# Altium footprint library Custom_Footprints.PcbLib: 36 footprints (part 1 of 3)
Each footprint in its own frame and in the unit in brackets; x right, y up, seen from the top. Pads: shape width x height; smd on the part's side, far side on the other; paste and mask are expansions set on the pad; w line width, h text height; cw(c..) or ccw(c..) is an arc to the next point about the centre after c.
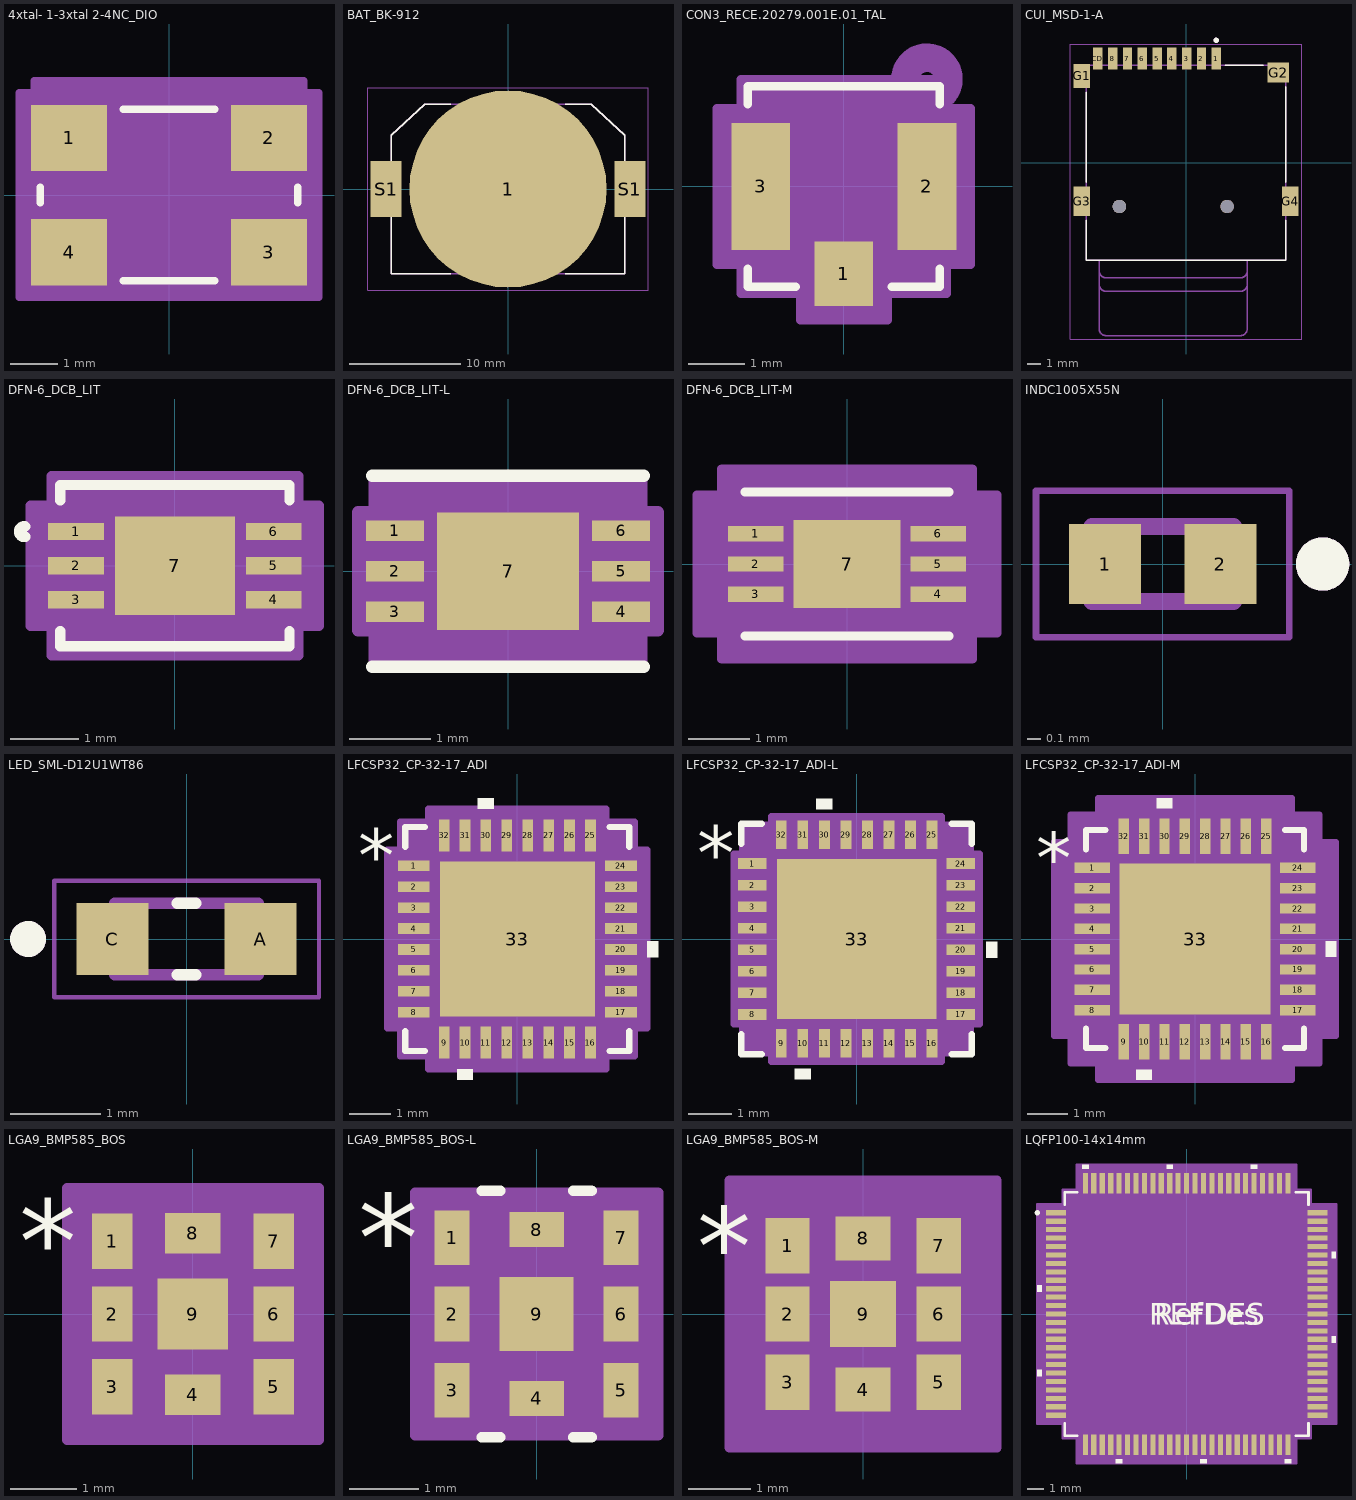
[diagram p0: the footprints below, top view; thin cyan lines are the x and y axes]

## 4xtal- 1-3xtal 2-4NC_DIO [mil]
pads (4):
  rect 63x55 smd paste-27.5 mask+0: 1(-82.68,47.24) 2(82.68,47.24) 3(82.68,-47.24) 4(-82.68,-47.24)
Top Overlay:
  lines w6: -106.5,-6.64 -106.5,6.64 ; -38.08,-71 38.08,-71 ; -38.08,71 38.08,71 ; 106.5,-6.64 106.5,6.64
Mechanical 13:
  circle w1: c-51.18,47.24 r3
  lines w1: -12,66 ccw(c0,66) 12,66 ; -101.5,-66 101.5,-66 101.5,66 -101.5,66 -101.5,-66
Mechanical 15:
  region: -111.5,-84.74 -124.18,-84.74 -124.18,84.74 -111.5,84.74 -111.5,94.74 111.5,94.74 111.5,84.74 124.18,84.74 124.18,-84.74 111.5,-84.74
  lines w6: -124.18,-84.74 -124.18,84.74 -111.5,84.74 -111.5,94.74 111.5,94.74 111.5,84.74 124.18,84.74 124.18,-84.74 111.5,-84.74 -111.5,-84.74 -124.18,-84.74
3D body "4xtal-1-3xtal2-4NC_DIO.step": height 31.1, standoff 0, extent -101.5,-65.98 101.5,65.98

## BAT_BK-912 [mm]
pads (3):
  round 17.78 smd paste-10: 1(0,0)
  rect 2.79x5.08 smd: S1(-10.985,0) S1(10.985,0)
Top Overlay:
  lines w0.127: -5.18,-7.62 -10.54,-7.62 -10.54,4.83 -7.49,7.62 -5.18,7.62 ; 5.18,-7.62 10.54,-7.62 10.54,4.83 7.49,7.62 5.18,7.62
Mechanical 13:
  lines w0.127: -10.54,-7.62 -10.54,4.83 -7.49,7.62 7.49,7.62 10.54,4.83 10.54,-7.62 -10.54,-7.62
Mechanical 15:
  lines w0.05: -12.63,-9.14 -12.63,9.14 12.63,9.14 12.63,-9.14 -12.63,-9.14

## CON3_RECE.20279.001E.01_TAL [mil]
pads (3):
  rect 41x45 smd paste+0 mask+0: 1(0,-61.02)
  rect 41x89 smd paste+0 mask+0: 2(58.07,0) 3(-58.07,0)
Top Overlay:
  lines w6: -67,-57.6 -67,-70 -33.6,-70 ; -67,57.6 -67,70 67,70 67,57.6 ; 33.6,-70 67,-70 67,-57.6
  text ".Designator" at -137.5,-25 h50
Bottom Overlay:
  circle w20: c92,0 r15
Mechanical 13:
  circle w20: c58.07,75 r15
  lines w1: -62,-65 62,-65 62,65 -62,65 -62,-65
  text ".Designator" at -137.5,-25 h50
Mechanical 15:
  region: 88.57,-54.5 88.57,54.5 72,54.5 72,75 -72,75 -72,54.5 -88.57,54.5 -88.57,-54.5 -72,-54.5 -72,-75 -30.5,-75 -30.5,-93.52 30.5,-93.52 30.5,-75 72,-75 72,-54.5
  lines w6: -88.57,-54.5 -88.57,54.5 -72,54.5 -72,75 72,75 72,54.5 88.57,54.5 88.57,-54.5 72,-54.5 72,-75 30.5,-75 30.5,-93.52 -30.5,-93.52 -30.5,-75 -72,-75 -72,-54.5 -88.57,-54.5

## CUI_MSD-1-A [mm]
height 2
pads (15):
  rect 0.7x1.6 smd: 1(2.25,7.75) 2(1.15,7.75) 3(0.05,7.75) 4(-1.05,7.75) 5(-2.15,7.75) 6(-3.25,7.75) 7(-4.35,7.75) 8(-5.45,7.75) CD(-6.55,7.75)
  rect 1.2x1.8 smd: G1(-7.75,6.45)
  rect 1.6x1.5 smd: G2(6.85,6.7)
  rect 1.2x2.2 smd: G3(-7.75,-2.85) G4(7.75,-2.85)
  round 1 hole 1 unplated: ""(-4.95,-3.25) ""(3.05,-3.25)
Top Overlay:
  circle w0.2: c2.25,9.1 r0.1
  lines w0.127: -7.425,-4.27 -7.425,-7.25 7.425,-7.25 7.425,-4.27 ; -7.425,-1.43 -7.425,5.23 ; 2.92,7.25 5.73,7.25 ; 7.425,-1.43 7.425,5.63
Mechanical 13:
  circle w0.2: c2.25,9.1 r0.1
  lines w0.127: -6.45,-9.05 ccw(c-5.95,-9.05) -5.95,-9.55 4.05,-9.55 ccw(c4.05,-9.05) 4.55,-9.05 ; -6.45,-8.05 ccw(c-5.95,-8.05) -5.95,-8.55 4.05,-8.55 ccw(c4.05,-8.05) 4.55,-8.05 ; -6.45,-7.25 -6.45,-12.35 ccw(c-5.95,-12.35) -5.95,-12.85 4.05,-12.85 ccw(c4.05,-12.35) 4.55,-12.35 4.55,-7.25 ; -6.45,-7.25 4.55,-7.25 ; -6.45,-7.25 -7.425,-7.25 -7.425,7.25 7.425,7.25 7.425,-7.25 4.55,-7.25
Mechanical 15:
  lines w0.05: -8.6,-13.1 -8.6,8.8 8.6,8.8 8.6,-13.1 -8.6,-13.1
3D body "step_temp.STEP": height 1.8, standoff -0.6, extent -8.276,-6.255 7.874,8.795

## DFN-6_DCB_LIT [mil]
pads (7):
  rect 32x10 smd paste+0 mask+0: 1(-57,19.68) 2(-57,0) 3(-57,-19.68) 4(57,-19.68) 5(57,0) 6(57,19.68)
  rect 69x57 smd paste+0 mask+0: 7(0,0)
Top Overlay:
  lines w6: -86.1,16.78 cw(c-86.84,19.68) -86.1,22.59 ; -66,-37.78 -66,-46.5 66,-46.5 66,-37.78 ; -66,37.78 -66,46.5 66,46.5 66,37.78
  text ".Designator" at -137.5,-25 h50
Mechanical 13:
  lines w1: -12,41.5 ccw(c0,41.5) 12,41.5 ; -61,-41.5 61,-41.5 61,41.5 -61,41.5 -61,-41.5
  text ".Designator" at -137.5,-25 h50
Mechanical 15:
  region: -71,-34.69 -83,-34.69 -83,34.69 -71,34.69 -71,51.5 71,51.5 71,34.69 83,34.69 83,-34.69 71,-34.69 71,-51.5 -71,-51.5
  lines w6: -83,-34.69 -83,34.69 -71,34.69 -71,51.5 71,51.5 71,34.69 83,34.69 83,-34.69 71,-34.69 71,-51.5 -71,-51.5 -71,-34.69 -83,-34.69
3D body "DFN-6_DCB_LIT.step": height 32.09, standoff 0, extent -60.98,-41.5 60.98,41.5

## DFN-6_DCB_LIT-L [mil]
pads (7):
  rect 28x10 smd paste+0 mask+0: 1(-55,19.68) 2(-55,0) 3(-55,-19.68) 4(55,-19.68) 5(55,0) 6(55,19.68)
  rect 69x57 smd paste+0 mask+0: 7(0,0)
Top Overlay:
  lines w6: -66,-46.5 66,-46.5 ; -66,46.5 66,46.5
  text ".Designator" at -137.5,-25 h50
Mechanical 13:
  lines w1: -12,41.5 ccw(c0,41.5) 12,41.5 ; -61,-41.5 61,-41.5 61,41.5 -61,41.5 -61,-41.5
  text ".Designator" at -137.5,-25 h50
Mechanical 15:
  region: -65,-28.68 -73,-28.68 -73,28.68 -65,28.68 -65,45.5 65,45.5 65,28.68 73,28.68 73,-28.68 65,-28.68 65,-45.5 -65,-45.5
  lines w6: -73,-28.68 -73,28.68 -65,28.68 -65,45.5 65,45.5 65,28.68 73,28.68 73,-28.68 65,-28.68 65,-45.5 -65,-45.5 -65,-28.68 -73,-28.68
3D body "DFN-6_DCB_LIT.step": height 32.09, standoff 0, extent -60.98,-41.5 60.98,41.5

## DFN-6_DCB_LIT-M [mil]
pads (7):
  rect 36x10 smd paste+0 mask+0: 1(-59,19.68) 2(-59,0) 3(-59,-19.68) 4(59,-19.68) 5(59,0) 6(59,19.68)
  rect 69x57 smd paste+0 mask+0: 7(0,0)
Top Overlay:
  lines w6: -66,-46.5 66,-46.5 ; -66,46.5 66,46.5
  text ".Designator" at -137.5,-25 h50
Mechanical 13:
  lines w1: -12,41.5 ccw(c0,41.5) 12,41.5 ; -61,-41.5 61,-41.5 61,41.5 -61,41.5 -61,-41.5
  text ".Designator" at -137.5,-25 h50
Mechanical 15:
  region: -81,-44.69 -97,-44.69 -97,44.69 -81,44.69 -81,61.5 81,61.5 81,44.69 97,44.69 97,-44.69 81,-44.69 81,-61.5 -81,-61.5
  lines w6: -97,-44.69 -97,44.69 -81,44.69 -81,61.5 81,61.5 81,44.69 97,44.69 97,-44.69 81,-44.69 81,-61.5 -81,-61.5 -81,-44.69 -97,-44.69
3D body "DFN-6_DCB_LIT.step": height 32.09, standoff 0, extent -60.98,-41.5 60.98,41.5

## INDC1005X55N [mm]
pads (2):
  rect 0.54x0.6 smd: 1(-0.432,0) 2(0.432,0)
Top Overlay:
  circle w0.2: c1.2,0 r0.1
Mechanical 13:
  circle w0.2: c1.2,0 r0.1
  lines w0.127: -0.53,-0.28 -0.53,0.28 0.53,0.28 0.53,-0.28 -0.53,-0.28
Mechanical 15:
  lines w0.05: -0.95,-0.55 -0.95,0.55 0.95,0.55 0.95,-0.55 -0.95,-0.55

## LED_SML-D12U1WT86 [mm]
height 0.65
pads (2):
  rect 0.8x0.8 smd: A(0.825,0) C(-0.825,0)
Top Overlay:
  circle w0.2: c-1.765,0 r0.1
  lines w0.127: -0.105,-0.4 0.105,-0.4 ; -0.105,0.4 0.105,0.4
Mechanical 13:
  circle w0.2: c-1.765,0 r0.1
  lines w0.127: -0.8,-0.4 0.8,-0.4 0.8,0.4 -0.8,0.4 -0.8,-0.4
Mechanical 15:
  lines w0.05: -1.475,-0.65 1.475,-0.65 1.475,0.65 -1.475,0.65 -1.475,-0.65
3D body "step_temp.STEP": height 0.55, standoff 0, extent -0.8,-0.4 0.8,0.4

## LFCSP32_CP-32-17_ADI [mil]
pads (33):
  rect 30x10 smd paste+0 mask+0: 1(-97.5,68.9) 2(-97.5,49.21) 3(-97.5,29.53) 4(-97.5,9.84) 5(-97.5,-9.84) 6(-97.5,-29.53) 7(-97.5,-49.21) 8(-97.5,-68.9) 17(97.5,-68.9) 18(97.5,-49.21) 19(97.5,-29.53) 20(97.5,-9.84) 21(97.5,9.84) 22(97.5,29.53) 23(97.5,49.21) 24(97.5,68.9)
  rect 10x30 smd paste+0 mask+0: 9(-68.9,-97.5) 10(-49.21,-97.5) 11(-29.53,-97.5) 12(-9.84,-97.5) 13(9.84,-97.5) 14(29.53,-97.5) 15(49.21,-97.5) 16(68.9,-97.5) 25(68.9,97.5) 26(49.21,97.5) 27(29.53,97.5) 28(9.84,97.5) 29(-9.84,97.5) 30(-29.53,97.5) 31(-49.21,97.5) 32(-68.9,97.5)
  rect 146x146 smd paste-73 mask+0: 33(0,0)
Top Overlay:
  region: -22.03,122.5 -37.03,122.5 -37.03,132.5 -22.03,132.5
  region: 122.5,-2.34 132.5,-2.34 132.5,-17.34 122.5,-17.34
  region: -41.71,-122.5 -56.71,-122.5 -56.71,-132.5 -41.71,-132.5
  lines w6: -105.5,-87 -105.5,-105.5 -87,-105.5 ; -105.5,87 -105.5,105.5 -87,105.5 ; 87,-105.5 105.5,-105.5 105.5,-87 ; 87,105.5 105.5,105.5 105.5,87
  text ".Designator" at -137.5,-25 h50
  text "*" at -150,53.74 h50
Top Paste:
  region: 69.06,-3.94 3.94,-3.94 3.94,-69.06 69.06,-69.06
  region: 69.06,69.06 3.94,69.06 3.94,3.94 69.06,3.94
  region: -3.94,-3.94 -69.06,-3.94 -69.06,-69.06 -3.94,-69.06
  region: -3.94,69.06 -69.06,69.06 -69.06,3.94 -3.94,3.94
Mechanical 13:
  lines w1: -100.5,50.5 -50.5,100.5 ; -100.5,-100.5 -100.5,100.5 100.5,100.5 100.5,-100.5 -100.5,-100.5 ; -100.5,-74.9 -100.5,-62.9 -100.5,-74.9 ; -100.5,-55.21 -100.5,-43.21 -100.5,-55.21 ; -100.5,-35.53 -100.5,-23.53 -100.5,-35.53 ; -100.5,-15.84 -100.5,-3.84 -100.5,-15.84 ; -100.5,3.84 -100.5,15.84 -100.5,3.84 ; -100.5,23.53 -100.5,35.53 -100.5,23.53 ; -100.5,43.21 -100.5,55.21 -100.5,43.21 ; -100.5,62.9 -100.5,74.9 -100.5,62.9 ; -74.9,-100.5 -62.9,-100.5 -74.9,-100.5 ; -74.9,100.5 -62.9,100.5 -74.9,100.5 ; -55.21,-100.5 -43.21,-100.5 -55.21,-100.5 ; -55.21,100.5 -43.21,100.5 -55.21,100.5 ; -35.53,-100.5 -23.53,-100.5 -35.53,-100.5 ; -35.53,100.5 -23.53,100.5 -35.53,100.5 ; -15.84,-100.5 -3.84,-100.5 -15.84,-100.5 ; -15.84,100.5 -3.84,100.5 -15.84,100.5 ; 3.84,-100.5 15.84,-100.5 3.84,-100.5 ; 3.84,100.5 15.84,100.5 3.84,100.5 ; 23.53,-100.5 35.53,-100.5 23.53,-100.5 ; 23.53,100.5 35.53,100.5 23.53,100.5 ; 43.21,-100.5 55.21,-100.5 43.21,-100.5 ; 43.21,100.5 55.21,100.5 43.21,100.5 ; 62.9,-100.5 74.9,-100.5 62.9,-100.5 ; 62.9,100.5 74.9,100.5 62.9,100.5 ; 100.5,-74.9 100.5,-62.9 100.5,-74.9 ; 100.5,-55.21 100.5,-43.21 100.5,-55.21 ; 100.5,-35.53 100.5,-23.53 100.5,-35.53 ; 100.5,-15.84 100.5,-3.84 100.5,-15.84 ; 100.5,3.84 100.5,15.84 100.5,3.84 ; 100.5,23.53 100.5,35.53 100.5,23.53 ; 100.5,43.21 100.5,55.21 100.5,43.21 ; 100.5,62.9 100.5,74.9 100.5,62.9
  text "*" at -95,53.74 h50
  text ".Designator" at -137.5,-25 h50
Mechanical 15:
  region: -83.9,-110.5 -110.5,-110.5 -110.5,-83.9 -122.5,-83.9 -122.5,83.9 -110.5,83.9 -110.5,110.5 -83.9,110.5 -83.9,122.5 83.9,122.5 83.9,110.5 110.5,110.5 110.5,83.9 122.5,83.9 122.5,-83.9 110.5,-83.9 110.5,-110.5 83.9,-110.5 83.9,-122.5 -83.9,-122.5
  lines w6: -122.5,-83.9 -122.5,83.9 -110.5,83.9 -110.5,110.5 -83.9,110.5 -83.9,122.5 83.9,122.5 83.9,110.5 110.5,110.5 110.5,83.9 122.5,83.9 122.5,-83.9 110.5,-83.9 110.5,-110.5 83.9,-110.5 83.9,-122.5 -83.9,-122.5 -83.9,-110.5 -110.5,-110.5 -110.5,-83.9 -122.5,-83.9
3D body "LFCSP32_CP-32-17_ADI.step": height 61.1, standoff 0, extent -100.51,-100.51 100.51,100.51

## LFCSP32_CP-32-17_ADI-L [mil]
pads (33):
  rect 26x10 smd paste+0 mask+0: 1(-95.5,68.9) 2(-95.5,49.21) 3(-95.5,29.53) 4(-95.5,9.84) 5(-95.5,-9.84) 6(-95.5,-29.53) 7(-95.5,-49.21) 8(-95.5,-68.9) 17(95.5,-68.9) 18(95.5,-49.21) 19(95.5,-29.53) 20(95.5,-9.84) 21(95.5,9.84) 22(95.5,29.53) 23(95.5,49.21) 24(95.5,68.9)
  rect 10x26 smd paste+0 mask+0: 9(-68.9,-95.5) 10(-49.21,-95.5) 11(-29.53,-95.5) 12(-9.84,-95.5) 13(9.84,-95.5) 14(29.53,-95.5) 15(49.21,-95.5) 16(68.9,-95.5) 25(68.9,95.5) 26(49.21,95.5) 27(29.53,95.5) 28(9.84,95.5) 29(-9.84,95.5) 30(-29.53,95.5) 31(-49.21,95.5) 32(-68.9,95.5)
  rect 146x146 smd paste-73 mask+0: 33(0,0)
Top Overlay:
  region: -22.03,118.5 -37.03,118.5 -37.03,128.5 -22.03,128.5
  region: 118.5,-2.34 128.5,-2.34 128.5,-17.34 118.5,-17.34
  region: -41.71,-118.5 -56.71,-118.5 -56.71,-128.5 -41.71,-128.5
  lines w6: -105.5,-87 -105.5,-105.5 -87,-105.5 ; -105.5,87 -105.5,105.5 -87,105.5 ; 87,-105.5 105.5,-105.5 105.5,-87 ; 87,105.5 105.5,105.5 105.5,87
  text ".Designator" at -137.5,-25 h50
  text "*" at -146,53.74 h50
Top Paste:
  region: 69.06,-3.94 3.94,-3.94 3.94,-69.06 69.06,-69.06
  region: 69.06,69.06 3.94,69.06 3.94,3.94 69.06,3.94
  region: -3.94,-3.94 -69.06,-3.94 -69.06,-69.06 -3.94,-69.06
  region: -3.94,69.06 -69.06,69.06 -69.06,3.94 -3.94,3.94
Mechanical 13:
  lines w1: -100.5,50.5 -50.5,100.5 ; -100.5,-100.5 -100.5,100.5 100.5,100.5 100.5,-100.5 -100.5,-100.5 ; -100.5,-74.9 -100.5,-62.9 -100.5,-74.9 ; -100.5,-55.21 -100.5,-43.21 -100.5,-55.21 ; -100.5,-35.53 -100.5,-23.53 -100.5,-35.53 ; -100.5,-15.84 -100.5,-3.84 -100.5,-15.84 ; -100.5,3.84 -100.5,15.84 -100.5,3.84 ; -100.5,23.53 -100.5,35.53 -100.5,23.53 ; -100.5,43.21 -100.5,55.21 -100.5,43.21 ; -100.5,62.9 -100.5,74.9 -100.5,62.9 ; -74.9,-100.5 -62.9,-100.5 -74.9,-100.5 ; -74.9,100.5 -62.9,100.5 -74.9,100.5 ; -55.21,-100.5 -43.21,-100.5 -55.21,-100.5 ; -55.21,100.5 -43.21,100.5 -55.21,100.5 ; -35.53,-100.5 -23.53,-100.5 -35.53,-100.5 ; -35.53,100.5 -23.53,100.5 -35.53,100.5 ; -15.84,-100.5 -3.84,-100.5 -15.84,-100.5 ; -15.84,100.5 -3.84,100.5 -15.84,100.5 ; 3.84,-100.5 15.84,-100.5 3.84,-100.5 ; 3.84,100.5 15.84,100.5 3.84,100.5 ; 23.53,-100.5 35.53,-100.5 23.53,-100.5 ; 23.53,100.5 35.53,100.5 23.53,100.5 ; 43.21,-100.5 55.21,-100.5 43.21,-100.5 ; 43.21,100.5 55.21,100.5 43.21,100.5 ; 62.9,-100.5 74.9,-100.5 62.9,-100.5 ; 62.9,100.5 74.9,100.5 62.9,100.5 ; 100.5,-74.9 100.5,-62.9 100.5,-74.9 ; 100.5,-55.21 100.5,-43.21 100.5,-55.21 ; 100.5,-35.53 100.5,-23.53 100.5,-35.53 ; 100.5,-15.84 100.5,-3.84 100.5,-15.84 ; 100.5,3.84 100.5,15.84 100.5,3.84 ; 100.5,23.53 100.5,35.53 100.5,23.53 ; 100.5,43.21 100.5,55.21 100.5,43.21 ; 100.5,62.9 100.5,74.9 100.5,62.9
  text "*" at -95,53.74 h50
  text ".Designator" at -137.5,-25 h50
Mechanical 15:
  region: -77.9,-104.5 -104.5,-104.5 -104.5,-77.9 -112.5,-77.9 -112.5,77.9 -104.5,77.9 -104.5,104.5 -77.9,104.5 -77.9,112.5 77.9,112.5 77.9,104.5 104.5,104.5 104.5,77.9 112.5,77.9 112.5,-77.9 104.5,-77.9 104.5,-104.5 77.9,-104.5 77.9,-112.5 -77.9,-112.5
  lines w6: -112.5,-77.9 -112.5,77.9 -104.5,77.9 -104.5,104.5 -77.9,104.5 -77.9,112.5 77.9,112.5 77.9,104.5 104.5,104.5 104.5,77.9 112.5,77.9 112.5,-77.9 104.5,-77.9 104.5,-104.5 77.9,-104.5 77.9,-112.5 -77.9,-112.5 -77.9,-104.5 -104.5,-104.5 -104.5,-77.9 -112.5,-77.9
3D body "LFCSP32_CP-32-17_ADI.step": height 61.1, standoff 0, extent -100.51,-100.51 100.51,100.51

## LFCSP32_CP-32-17_ADI-M [mil]
pads (33):
  rect 34x10 smd paste+0 mask+0: 1(-99.5,68.9) 2(-99.5,49.21) 3(-99.5,29.53) 4(-99.5,9.84) 5(-99.5,-9.84) 6(-99.5,-29.53) 7(-99.5,-49.21) 8(-99.5,-68.9) 17(99.5,-68.9) 18(99.5,-49.21) 19(99.5,-29.53) 20(99.5,-9.84) 21(99.5,9.84) 22(99.5,29.53) 23(99.5,49.21) 24(99.5,68.9)
  rect 10x34 smd paste+0 mask+0: 9(-68.9,-99.5) 10(-49.21,-99.5) 11(-29.53,-99.5) 12(-9.84,-99.5) 13(9.84,-99.5) 14(29.53,-99.5) 15(49.21,-99.5) 16(68.9,-99.5) 25(68.9,99.5) 26(49.21,99.5) 27(29.53,99.5) 28(9.84,99.5) 29(-9.84,99.5) 30(-29.53,99.5) 31(-49.21,99.5) 32(-68.9,99.5)
  rect 146x146 smd paste-73 mask+0: 33(0,0)
Top Overlay:
  region: -41.71,-126.5 -56.71,-126.5 -56.71,-136.5 -41.71,-136.5
  region: 126.5,-2.34 136.5,-2.34 136.5,-17.34 126.5,-17.34
  region: -22.03,126.5 -37.03,126.5 -37.03,136.5 -22.03,136.5
  lines w6: -105.5,-87 -105.5,-105.5 -87,-105.5 ; -105.5,87 -105.5,105.5 -87,105.5 ; 87,-105.5 105.5,-105.5 105.5,-87 ; 87,105.5 105.5,105.5 105.5,87
  text "*" at -154,53.74 h50
  text ".Designator" at -137.5,-25 h50
Top Paste:
  region: -3.94,69.06 -69.06,69.06 -69.06,3.94 -3.94,3.94
  region: -3.94,-3.94 -69.06,-3.94 -69.06,-69.06 -3.94,-69.06
  region: 69.06,69.06 3.94,69.06 3.94,3.94 69.06,3.94
  region: 69.06,-3.94 3.94,-3.94 3.94,-69.06 69.06,-69.06
Mechanical 13:
  lines w1: -100.5,50.5 -50.5,100.5 ; -100.5,-100.5 100.5,-100.5 100.5,100.5 -100.5,100.5 -100.5,-100.5 ; -100.5,-74.9 -100.5,-62.9 -100.5,-74.9 ; -100.5,-55.21 -100.5,-43.21 -100.5,-55.21 ; -100.5,-35.53 -100.5,-23.53 -100.5,-35.53 ; -100.5,-15.84 -100.5,-3.84 -100.5,-15.84 ; -100.5,3.84 -100.5,15.84 -100.5,3.84 ; -100.5,23.53 -100.5,35.53 -100.5,23.53 ; -100.5,43.21 -100.5,55.21 -100.5,43.21 ; -100.5,62.9 -100.5,74.9 -100.5,62.9 ; -74.9,-100.5 -62.9,-100.5 -74.9,-100.5 ; -74.9,100.5 -62.9,100.5 -74.9,100.5 ; -55.21,-100.5 -43.21,-100.5 -55.21,-100.5 ; -55.21,100.5 -43.21,100.5 -55.21,100.5 ; -35.53,-100.5 -23.53,-100.5 -35.53,-100.5 ; -35.53,100.5 -23.53,100.5 -35.53,100.5 ; -15.84,-100.5 -3.84,-100.5 -15.84,-100.5 ; -15.84,100.5 -3.84,100.5 -15.84,100.5 ; 3.84,-100.5 15.84,-100.5 3.84,-100.5 ; 3.84,100.5 15.84,100.5 3.84,100.5 ; 23.53,-100.5 35.53,-100.5 23.53,-100.5 ; 23.53,100.5 35.53,100.5 23.53,100.5 ; 43.21,-100.5 55.21,-100.5 43.21,-100.5 ; 43.21,100.5 55.21,100.5 43.21,100.5 ; 62.9,-100.5 74.9,-100.5 62.9,-100.5 ; 62.9,100.5 74.9,100.5 62.9,100.5 ; 100.5,-74.9 100.5,-62.9 100.5,-74.9 ; 100.5,-55.21 100.5,-43.21 100.5,-55.21 ; 100.5,-35.53 100.5,-23.53 100.5,-35.53 ; 100.5,-15.84 100.5,-3.84 100.5,-15.84 ; 100.5,3.84 100.5,15.84 100.5,3.84 ; 100.5,23.53 100.5,35.53 100.5,23.53 ; 100.5,43.21 100.5,55.21 100.5,43.21 ; 100.5,62.9 100.5,74.9 100.5,62.9
  text ".Designator" at -137.5,-25 h50
  text "*" at -95,53.74 h50
Mechanical 15:
  region: -93.9,-120.5 -120.5,-120.5 -120.5,-93.9 -136.5,-93.9 -136.5,93.9 -120.5,93.9 -120.5,120.5 -93.9,120.5 -93.9,136.5 93.9,136.5 93.9,120.5 120.5,120.5 120.5,93.9 136.5,93.9 136.5,-93.9 120.5,-93.9 120.5,-120.5 93.9,-120.5 93.9,-136.5 -93.9,-136.5
  lines w6: -136.5,-93.9 -120.5,-93.9 -120.5,-120.5 -93.9,-120.5 -93.9,-136.5 93.9,-136.5 93.9,-120.5 120.5,-120.5 120.5,-93.9 136.5,-93.9 136.5,93.9 120.5,93.9 120.5,120.5 93.9,120.5 93.9,136.5 -93.9,136.5 -93.9,120.5 -120.5,120.5 -120.5,93.9 -136.5,93.9 -136.5,-93.9
3D body "LFCSP32_CP-32-17_ADI.step": height 61.1, standoff 0, extent -100.51,-100.51 100.51,100.51

## LGA9_BMP585_BOS [mil]
pads (9):
  rect 24x33 smd paste+0 mask+0: 1(-48,43.31) 2(-48,0) 3(-48,-43.31) 5(48,-43.31) 6(48,0) 7(48,43.31)
  rect 33x24 smd paste+0 mask+0: 4(0,-48) 8(0,48)
  rect 42x42 smd paste+0 mask+0: 9(0,0)
Top Overlay:
  text "*" at -103.5,18.31 h50
  text ".Designator" at -137.5,-25 h50
Mechanical 13:
  lines w1: -65,15 -15,65 ; -65,-65 65,-65 65,65 -65,65 -65,-65 ; -65,-59.81 -65,-26.81 -60,-26.81 -60,-59.81 -65,-59.81 ; -65,-16.5 -65,16.5 -60,16.5 -60,-16.5 -65,-16.5 ; -65,26.81 -65,59.81 -60,59.81 -60,26.81 -65,26.81 ; -16.5,-65 16.5,-65 16.5,-60 -16.5,-60 -16.5,-65 ; -16.5,60 16.5,60 16.5,65 -16.5,65 -16.5,60 ; 60,-59.81 65,-59.81 65,-26.81 60,-26.81 60,-59.81 ; 60,-16.5 65,-16.5 65,16.5 60,16.5 60,-16.5 ; 60,26.81 65,26.81 65,59.81 60,59.81 60,26.81
  text ".Designator" at -137.5,-25 h50
  text "*" at -17.5,18.31 h50
Mechanical 15:
  region: -26.5,-75 -75,-75 -75,-69.81 -75,69.81 -75,75 -26.5,75 26.5,75 75,75 75,69.81 75,-69.81 75,-75 26.5,-75
  lines w6: -75,-75 -75,-69.81 -75,69.81 -75,75 -26.5,75 26.5,75 75,75 75,69.81 75,-69.81 75,-75 26.5,-75 -26.5,-75 -75,-75
3D body "LGA9_BMP585_BOS.step": height 77.09, standoff 0, extent -65,-65 65,65

## LGA9_BMP585_BOS-L [mil]
pads (9):
  rect 20x31 smd paste+0 mask+0: 1(-48,43.31) 2(-48,0) 3(-48,-43.31) 5(48,-43.31) 6(48,0) 7(48,43.31)
  rect 31x20 smd paste+0 mask+0: 4(0,-48) 8(0,48)
  rect 42x42 smd paste+0 mask+0: 9(0,0)
Top Overlay:
  lines w6: -31.19,-70 -20.75,-70 ; -31.19,70 -20.75,70 ; 20.75,-70 31.19,-70 ; 20.75,70 31.19,70
  text "*" at -101.5,18.31 h50
  text ".Designator" at -137.5,-25 h50
Mechanical 13:
  lines w1: -65,15 -15,65 ; -65,-65 65,-65 65,65 -65,65 -65,-65 ; -65,-59.81 -65,-26.81 -60,-26.81 -60,-59.81 -65,-59.81 ; -65,-16.5 -65,16.5 -60,16.5 -60,-16.5 -65,-16.5 ; -65,26.81 -65,59.81 -60,59.81 -60,26.81 -65,26.81 ; -16.5,-65 16.5,-65 16.5,-60 -16.5,-60 -16.5,-65 ; -16.5,60 16.5,60 16.5,65 -16.5,65 -16.5,60 ; 60,-59.81 65,-59.81 65,-26.81 60,-26.81 60,-59.81 ; 60,-16.5 65,-16.5 65,16.5 60,16.5 60,-16.5 ; 60,26.81 65,26.81 65,59.81 60,59.81 60,26.81
  text ".Designator" at -137.5,-25 h50
  text "*" at -19.5,18.31 h50
Mechanical 15:
  region: -19.5,-69 -69,-69 -69,-62.81 -69,62.81 -69,69 -19.5,69 19.5,69 69,69 69,62.81 69,-62.81 69,-69 19.5,-69
  lines w6: -69,-69 -69,-62.81 -69,62.81 -69,69 -19.5,69 19.5,69 69,69 69,62.81 69,-62.81 69,-69 19.5,-69 -19.5,-69 -69,-69
3D body "LGA9_BMP585_BOS.step": height 77.09, standoff 0, extent -65,-65 65,65

## LGA9_BMP585_BOS-M [mil]
pads (9):
  rect 28x35 smd paste+0 mask+0: 1(-48,43.31) 2(-48,0) 3(-48,-43.31) 5(48,-43.31) 6(48,0) 7(48,43.31)
  rect 35x28 smd paste+0 mask+0: 4(0,-48) 8(0,48)
  rect 42x42 smd paste+0 mask+0: 9(0,0)
Top Overlay:
  text "*" at -105.5,18.31 h50
  text ".Designator" at -137.5,-25 h50
Mechanical 13:
  lines w1: -65,15 -15,65 ; -65,-65 65,-65 65,65 -65,65 -65,-65 ; -65,-59.81 -65,-26.81 -60,-26.81 -60,-59.81 -65,-59.81 ; -65,-16.5 -65,16.5 -60,16.5 -60,-16.5 -65,-16.5 ; -65,26.81 -65,59.81 -60,59.81 -60,26.81 -65,26.81 ; -16.5,-65 16.5,-65 16.5,-60 -16.5,-60 -16.5,-65 ; -16.5,60 16.5,60 16.5,65 -16.5,65 -16.5,60 ; 60,-59.81 65,-59.81 65,-26.81 60,-26.81 60,-59.81 ; 60,-16.5 65,-16.5 65,16.5 60,16.5 60,-16.5 ; 60,26.81 65,26.81 65,59.81 60,59.81 60,26.81
  text ".Designator" at -137.5,-25 h50
  text "*" at -15.5,18.31 h50
Mechanical 15:
  region: -37.5,-85 -85,-85 -85,-80.81 -85,80.81 -85,85 -37.5,85 37.5,85 85,85 85,80.81 85,-80.81 85,-85 37.5,-85
  lines w6: -85,-85 -85,-80.81 -85,80.81 -85,85 -37.5,85 37.5,85 85,85 85,80.81 85,-80.81 85,-85 37.5,-85 -37.5,-85 -85,-85
3D body "LGA9_BMP585_BOS.step": height 77.09, standoff 0, extent -65,-65 65,65

## LQFP100-14x14mm [mil]
pads (100):
  rect 47x12 smd paste+0 mask+0: 1(-305.12,236.22) 2(-305.12,216.54) 3(-305.12,196.85) 4(-305.12,177.17) 5(-305.12,157.48) 6(-305.12,137.8) 7(-305.12,118.11) 8(-305.12,98.43) 9(-305.12,78.74) 10(-305.12,59.06) 11(-305.12,39.37) 12(-305.12,19.69) 13(-305.12,0) 14(-305.12,-19.68) 15(-305.12,-39.37) 16(-305.12,-59.06) 17(-305.12,-78.74) 18(-305.12,-98.43) 19(-305.12,-118.11) 20(-305.12,-137.8) 21(-305.12,-157.48) 22(-305.12,-177.17) 23(-305.12,-196.85) 24(-305.12,-216.54) 25(-305.12,-236.22) 51(305.12,-236.22) 52(305.12,-216.54) 53(305.12,-196.85) 54(305.12,-177.17) 55(305.12,-157.48) 56(305.12,-137.8) 57(305.12,-118.11) 58(305.12,-98.43) 59(305.12,-78.74) 60(305.12,-59.06) 61(305.12,-39.37) 62(305.12,-19.68) 63(305.12,0) 64(305.12,19.68) 65(305.12,39.37) 66(305.12,59.06) 67(305.12,78.74) 68(305.12,98.43) 69(305.12,118.11) 70(305.12,137.8) 71(305.12,157.48) 72(305.12,177.17) 73(305.12,196.85) 74(305.12,216.54) 75(305.12,236.22)
  rect 12x47 smd paste+0 mask+0: 26(-236.22,-305.12) 27(-216.54,-305.12) 28(-196.85,-305.12) 29(-177.17,-305.12) 30(-157.48,-305.12) 31(-137.8,-305.12) 32(-118.11,-305.12) 33(-98.43,-305.12) 34(-78.74,-305.12) 35(-59.06,-305.12) 36(-39.37,-305.12) 37(-19.68,-305.12) 38(0,-305.12) 39(19.68,-305.12) 40(39.37,-305.12) 41(59.06,-305.12) 42(78.74,-305.12) 43(98.43,-305.12) 44(118.11,-305.12) 45(137.8,-305.12) 46(157.48,-305.12) 47(177.17,-305.12) 48(196.85,-305.12) 49(216.54,-305.12) 50(236.22,-305.12) 76(236.22,305.12) 77(216.54,305.12) 78(196.85,305.12) 79(177.17,305.12) 80(157.48,305.12) 81(137.8,305.12) 82(118.11,305.12) 83(98.43,305.12) 84(78.74,305.12) 85(59.06,305.12) 86(39.37,305.12) 87(19.68,305.12) 88(0,305.12) 89(-19.68,305.12) 90(-39.37,305.12) 91(-59.06,305.12) 92(-78.74,305.12) 93(-98.43,305.12) 94(-118.11,305.12) 95(-137.8,305.12) 96(-157.48,305.12) 97(-177.17,305.12) 98(-196.85,305.12) 99(-216.54,305.12) 100(-236.22,305.12)
Top Overlay:
  circle w6: c-348.46,236.22 r3
  region: -228.72,338.62 -243.72,338.62 -243.72,348.62 -228.72,348.62
  region: -31.87,338.62 -46.87,338.62 -46.87,348.62 -31.87,348.62
  region: 164.98,338.62 149.98,338.62 149.98,348.62 164.98,348.62
  region: 338.62,145.3 348.62,145.3 348.62,130.3 338.62,130.3
  region: 338.62,-51.56 348.62,-51.56 348.62,-66.56 338.62,-66.56
  region: 243.72,-338.62 228.72,-338.62 228.72,-348.62 243.72,-348.62
  region: 46.87,-338.62 31.87,-338.62 31.87,-348.62 46.87,-348.62
  region: -149.98,-338.62 -164.98,-338.62 -164.98,-348.62 -149.98,-348.62
  region: -338.62,-130.3 -348.62,-130.3 -348.62,-145.3 -338.62,-145.3
  region: -338.62,66.56 -348.62,66.56 -348.62,51.56 -338.62,51.56
  lines w6: -284.5,-255.32 -284.5,-284.5 -255.32,-284.5 ; -284.5,255.32 -284.5,284.5 -255.32,284.5 ; 255.32,-284.5 284.5,-284.5 284.5,-255.32 ; 255.32,284.5 284.5,284.5 284.5,255.32
  text "REFDES" at -87.5,-25 h50
  text "RefDes" at -75,-25 h50
Mechanical 13:
  circle w0: c-256.62,236.22 r3
  lines w1: -279.5,229.5 -229.5,279.5 ; -279.5,-279.5 -279.5,279.5 279.5,279.5 279.5,-279.5 -279.5,-279.5
  text "RefDes2" at -87.5,-25 h50
Mechanical 15:
  region: -256.22,-289.5 -289.5,-289.5 -289.5,-256.22 -348.62,-256.22 -348.62,256.22 -289.5,256.22 -289.5,289.5 -256.22,289.5 -256.22,348.62 256.22,348.62 256.22,289.5 289.5,289.5 289.5,256.22 348.62,256.22 348.62,-256.22 289.5,-256.22 289.5,-289.5 256.22,-289.5 256.22,-348.62 -256.22,-348.62
  lines w6: -348.62,-256.22 -348.62,256.22 -289.5,256.22 -289.5,289.5 -256.22,289.5 -256.22,348.62 256.22,348.62 256.22,289.5 289.5,289.5 289.5,256.22 348.62,256.22 348.62,-256.22 289.5,-256.22 289.5,-289.5 256.22,-289.5 256.22,-348.62 -256.22,-348.62 -256.22,-289.5 -289.5,-289.5 -289.5,-256.22 -348.62,-256.22
3D body "LQFP100-14x14mm.step": height 63.11, standoff 0, extent -314.84,-314.84 314.84,314.84